# EAGLE library part AT91SAM9260 (library ARM926SBC)
ARM926EJ-S Microprocessor, 200MHz
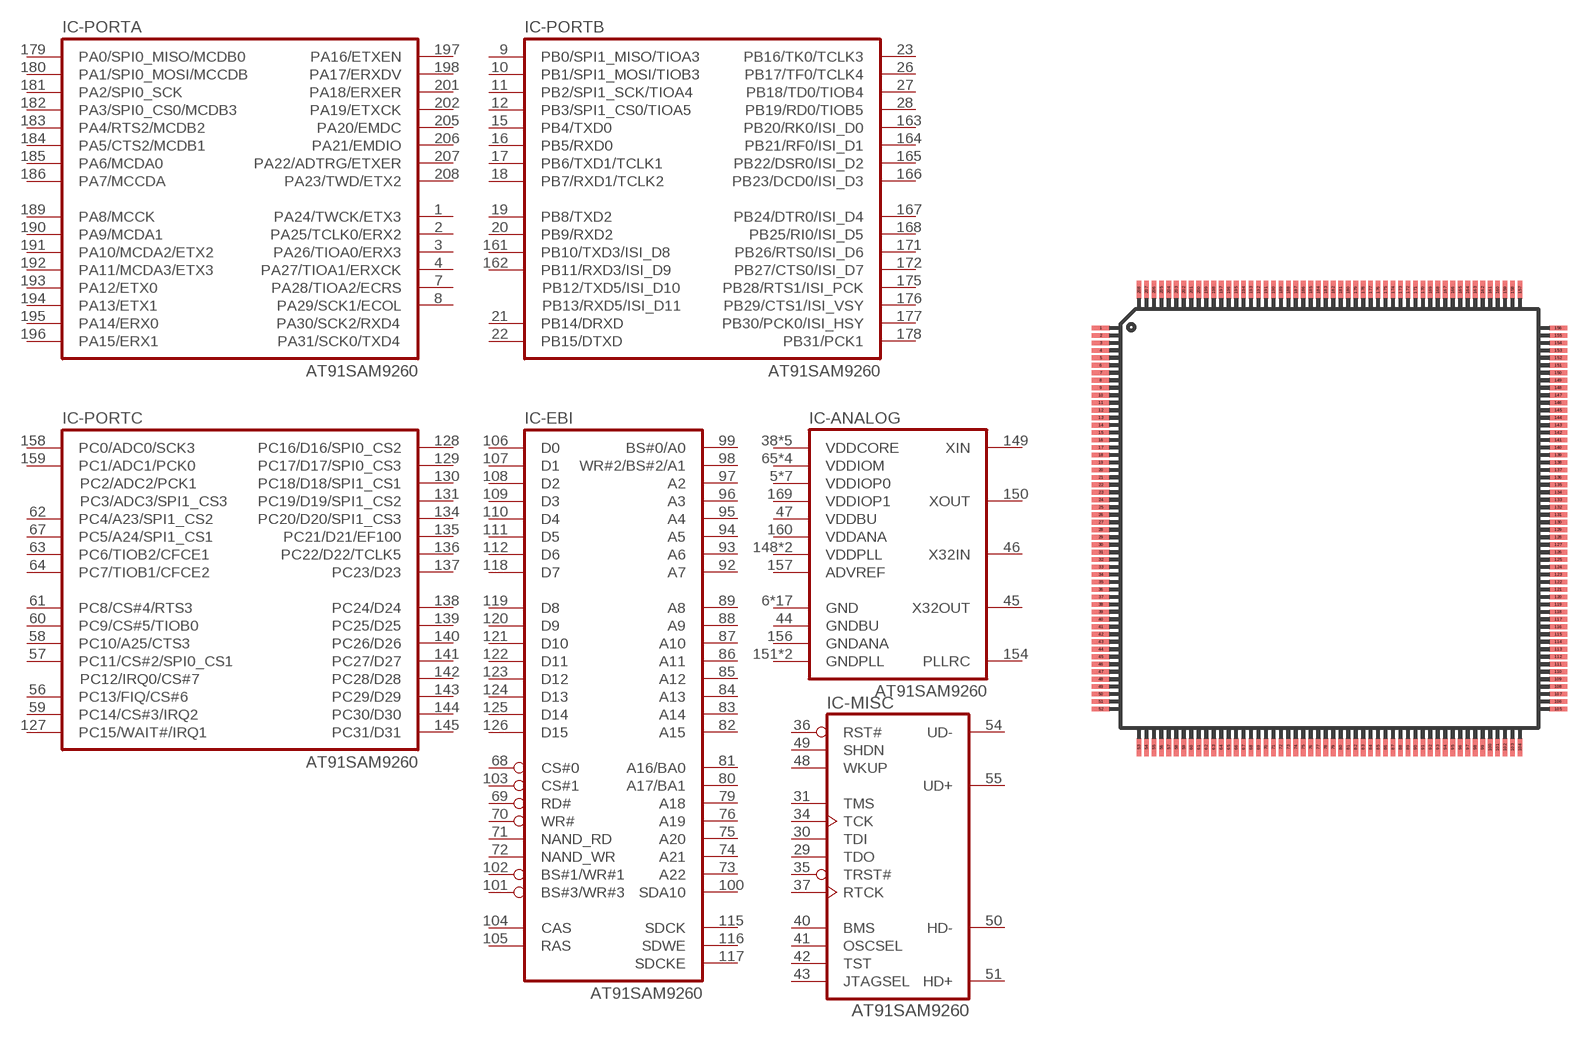
[diagram p0: symbol with the pads of PQFP208; footprint PQFP208]

Designator prefix IC; gates -ANALOG=AT91SAM9260-ANALOG -EBI=AT91SAM9260-EBI -PORTA=AT91SAM9260-QU-PORTA -PORTB=AT91SAM9260-QU-PORTB -PORTC=AT91SAM9260-QU-PORTC -MISC=AT91SAM9260-QU-MISC

## AT91SAM9260A-QU, AT91SAM9260B-QU  [PQFP208]
1  -PORTA:PA24/TWCK/ETX3
2  -PORTA:PA25/TCLK0/ERX2
3  -PORTA:PA26/TIOA0/ERX3
4  -PORTA:PA27/TIOA1/ERXCK
5  -ANALOG:VDDIOP0  pwr
6  -ANALOG:GND  pwr
7  -PORTA:PA28/TIOA2/ECRS
8  -PORTA:PA29/SCK1/ECOL
9  -PORTB:PB0/SPI1_MISO/TIOA3
10  -PORTB:PB1/SPI1_MOSI/TIOB3
11  -PORTB:PB2/SPI1_SCK/TIOA4
12  -PORTB:PB3/SPI1_CS0/TIOA5
13  -ANALOG:VDDIOP0  pwr
14  -ANALOG:GND  pwr
15  -PORTB:PB4/TXD0
16  -PORTB:PB5/RXD0
17  -PORTB:PB6/TXD1/TCLK1
18  -PORTB:PB7/RXD1/TCLK2
19  -PORTB:PB8/TXD2
20  -PORTB:PB9/RXD2
21  -PORTB:PB14/DRXD
22  -PORTB:PB15/DTXD
23  -PORTB:PB16/TK0/TCLK3
24  -ANALOG:VDDIOP0  pwr
25  -ANALOG:GND  pwr
26  -PORTB:PB17/TF0/TCLK4
27  -PORTB:PB18/TD0/TIOB4
28  -PORTB:PB19/RD0/TIOB5
29  -MISC:TDO  out
30  -MISC:TDI  in
31  -MISC:TMS  in
32  -ANALOG:VDDIOP0  pwr
33  -ANALOG:GND  pwr
34  -MISC:TCK  in
35  -MISC:TRST#  in
36  -MISC:RST#  in
37  -MISC:RTCK  out
38  -ANALOG:VDDCORE  pwr
39  -ANALOG:GND  pwr
40  -MISC:BMS  in
41  -MISC:OSCSEL  in
42  -MISC:TST  in
43  -MISC:JTAGSEL  in
44  -ANALOG:GNDBU  pwr
45  -ANALOG:X32OUT  out
46  -ANALOG:X32IN  in
47  -ANALOG:VDDBU  pwr
48  -MISC:WKUP  in
49  -MISC:SHDN  out
50  -MISC:HD-
51  -MISC:HD+
52  -ANALOG:VDDIOP0  pwr
53  -ANALOG:GND  pwr
54  -MISC:UD-
55  -MISC:UD+
56  -PORTC:PC13/FIQ/CS#6
57  -PORTC:PC11/CS#2/SPI0_CS1
58  -PORTC:PC10/A25/CTS3
59  -PORTC:PC14/CS#3/IRQ2
60  -PORTC:PC9/CS#5/TIOB0
61  -PORTC:PC8/CS#4/RTS3
62  -PORTC:PC4/A23/SPI1_CS2
63  -PORTC:PC6/TIOB2/CFCE1
64  -PORTC:PC7/TIOB1/CFCE2
65  -ANALOG:VDDIOM  pwr
66  -ANALOG:GND  pwr
67  -PORTC:PC5/A24/SPI1_CS1
68  -EBI:CS#0  out
69  -EBI:RD#  out
70  -EBI:WR#  out
71  -EBI:NAND_RD  out
72  -EBI:NAND_WR  out
73  -EBI:A22  out
74  -EBI:A21  out
75  -EBI:A20  out
76  -EBI:A19  out
77  -ANALOG:VDDCORE  pwr
78  -ANALOG:GND  pwr
79  -EBI:A18  out
80  -EBI:A17/BA1  out
81  -EBI:A16/BA0  out
82  -EBI:A15  out
83  -EBI:A14  out
84  -EBI:A13  out
85  -EBI:A12  out
86  -EBI:A11  out
87  -EBI:A10  out
88  -EBI:A9  out
89  -EBI:A8  out
90  -ANALOG:VDDIOM  pwr
91  -ANALOG:GND  pwr
92  -EBI:A7  out
93  -EBI:A6  out
94  -EBI:A5  out
95  -EBI:A4  out
96  -EBI:A3  out
97  -EBI:A2  out
98  -EBI:WR#2/BS#2/A1  out
99  -EBI:BS#0/A0  out
100  -EBI:SDA10  out
101  -EBI:BS#3/WR#3  out
102  -EBI:BS#1/WR#1  out
103  -EBI:CS#1  out
104  -EBI:CAS  out
105  -EBI:RAS  out
106  -EBI:D0
107  -EBI:D1
108  -EBI:D2
109  -EBI:D3
110  -EBI:D4
111  -EBI:D5
112  -EBI:D6
113  -ANALOG:GND  pwr
114  -ANALOG:VDDIOM  pwr
115  -EBI:SDCK  out
116  -EBI:SDWE  out
117  -EBI:SDCKE  out
118  -EBI:D7
119  -EBI:D8
120  -EBI:D9
121  -EBI:D10
122  -EBI:D11
123  -EBI:D12
124  -EBI:D13
125  -EBI:D14
126  -EBI:D15
127  -PORTC:PC15/WAIT#/IRQ1
128  -PORTC:PC16/D16/SPI0_CS2
129  -PORTC:PC17/D17/SPI0_CS3
130  -PORTC:PC18/D18/SPI1_CS1
131  -PORTC:PC19/D19/SPI1_CS2
132  -ANALOG:VDDIOM  pwr
133  -ANALOG:GND  pwr
134  -PORTC:PC20/D20/SPI1_CS3
135  -PORTC:PC21/D21/EF100
136  -PORTC:PC22/D22/TCLK5
137  -PORTC:PC23/D23
138  -PORTC:PC24/D24
139  -PORTC:PC25/D25
140  -PORTC:PC26/D26
141  -PORTC:PC27/D27
142  -PORTC:PC28/D28
143  -PORTC:PC29/D29
144  -PORTC:PC30/D30
145  -PORTC:PC31/D31
146  -ANALOG:GND  pwr
147  -ANALOG:VDDCORE  pwr
148  -ANALOG:VDDPLL  pwr
149  -ANALOG:XIN  in
150  -ANALOG:XOUT  out
151  -ANALOG:GNDPLL  pwr
153  -ANALOG:GNDPLL  pwr
154  -ANALOG:PLLRC  pas
155  -ANALOG:VDDPLL  pwr
156  -ANALOG:GNDANA  pwr
157  -ANALOG:ADVREF  pas
158  -PORTC:PC0/ADC0/SCK3
159  -PORTC:PC1/ADC1/PCK0
160  -ANALOG:VDDANA  pwr
161  -PORTB:PB10/TXD3/ISI_D8
162  -PORTB:PB11/RXD3/ISI_D9
163  -PORTB:PB20/RK0/ISI_D0
164  -PORTB:PB21/RF0/ISI_D1
165  -PORTB:PB22/DSR0/ISI_D2
166  -PORTB:PB23/DCD0/ISI_D3
167  -PORTB:PB24/DTR0/ISI_D4
168  -PORTB:PB25/RI0/ISI_D5
169  -ANALOG:VDDIOP1  pwr
170  -ANALOG:GND  pwr
171  -PORTB:PB26/RTS0/ISI_D6
172  -PORTB:PB27/CTS0/ISI_D7
173  -ANALOG:GND  pwr
174  -ANALOG:VDDCORE  pwr
175  -PORTB:PB28/RTS1/ISI_PCK
176  -PORTB:PB29/CTS1/ISI_VSY
177  -PORTB:PB30/PCK0/ISI_HSY
178  -PORTB:PB31/PCK1
179  -PORTA:PA0/SPI0_MISO/MCDB0
180  -PORTA:PA1/SPI0_MOSI/MCCDB
181  -PORTA:PA2/SPI0_SCK
182  -PORTA:PA3/SPI0_CS0/MCDB3
183  -PORTA:PA4/RTS2/MCDB2
184  -PORTA:PA5/CTS2/MCDB1
185  -PORTA:PA6/MCDA0
186  -PORTA:PA7/MCCDA
187  -ANALOG:VDDIOP0  pwr
188  -ANALOG:GND  pwr
189  -PORTA:PA8/MCCK
190  -PORTA:PA9/MCDA1
191  -PORTA:PA10/MCDA2/ETX2
192  -PORTA:PA11/MCDA3/ETX3
193  -PORTA:PA12/ETX0
194  -PORTA:PA13/ETX1
195  -PORTA:PA14/ERX0
196  -PORTA:PA15/ERX1
197  -PORTA:PA16/ETXEN
198  -PORTA:PA17/ERXDV
199  -ANALOG:VDDIOP0  pwr
200  -ANALOG:GND  pwr
201  -PORTA:PA18/ERXER
202  -PORTA:PA19/ETXCK
203  -ANALOG:VDDCORE  pwr
204  -ANALOG:GND  pwr
205  -PORTA:PA20/EMDC
206  -PORTA:PA21/EMDIO
207  -PORTA:PA22/ADTRG/ETXER
208  -PORTA:PA23/TWD/ETX2

## Footprint PQFP208 (pad centres in mm)
PLASTIC QUAD FLAT PACK
smd 1.2 x 0.32: 1 -15.3,12.75; 2 -15.3,12.25; 3 -15.3,11.75; 4 -15.3,11.25; 5 -15.3,10.75; 6 -15.3,10.25; 7 -15.3,9.75; 8 -15.3,9.25; 9 -15.3,8.75; 10 -15.3,8.25; 11 -15.3,7.75; 12 -15.3,7.25; 13 -15.3,6.75; 14 -15.3,6.25; 15 -15.3,5.75; 16 -15.3,5.25; 17 -15.3,4.75; 18 -15.3,4.25; 19 -15.3,3.75; 20 -15.3,3.25; 21 -15.3,2.75; 22 -15.3,2.25; 23 -15.3,1.75; 24 -15.3,1.25; 25 -15.3,0.75; 26 -15.3,0.25; 27 -15.3,-0.25; 28 -15.3,-0.75; 29 -15.3,-1.25; 30 -15.3,-1.75; 31 -15.3,-2.25; 32 -15.3,-2.75; 33 -15.3,-3.25; 34 -15.3,-3.75; 35 -15.3,-4.25; 36 -15.3,-4.75; 37 -15.3,-5.25; 38 -15.3,-5.75; 39 -15.3,-6.25; 40 -15.3,-6.75; 41 -15.3,-7.25; 42 -15.3,-7.75; 43 -15.3,-8.25; 44 -15.3,-8.75; 45 -15.3,-9.25; 46 -15.3,-9.75; 47 -15.3,-10.25; 48 -15.3,-10.75; 49 -15.3,-11.25; 50 -15.3,-11.75; 51 -15.3,-12.25; 52 -15.3,-12.75; 105 15.3,-12.75; 106 15.3,-12.25; 107 15.3,-11.75; 108 15.3,-11.25; 109 15.3,-10.75; 110 15.3,-10.25; 111 15.3,-9.75; 112 15.3,-9.25; 113 15.3,-8.75; 114 15.3,-8.25; 115 15.3,-7.75; 116 15.3,-7.25; 117 15.3,-6.75; 118 15.3,-6.25; 119 15.3,-5.75; 120 15.3,-5.25; 121 15.3,-4.75; 122 15.3,-4.25; 123 15.3,-3.75; 124 15.3,-3.25; 125 15.3,-2.75; 126 15.3,-2.25; 127 15.3,-1.75; 128 15.3,-1.25; 129 15.3,-0.75; 130 15.3,-0.25; 131 15.3,0.25; 132 15.3,0.75; 133 15.3,1.25; 134 15.3,1.75; 135 15.3,2.25; 136 15.3,2.75; 137 15.3,3.25; 138 15.3,3.75; 139 15.3,4.25; 140 15.3,4.75; 141 15.3,5.25; 142 15.3,5.75; 143 15.3,6.25; 144 15.3,6.75; 145 15.3,7.25; 146 15.3,7.75; 147 15.3,8.25; 148 15.3,8.75; 149 15.3,9.25; 150 15.3,9.75; 151 15.3,10.25; 152 15.3,10.75; 153 15.3,11.25; 154 15.3,11.75; 155 15.3,12.25; 156 15.3,12.75
smd 0.32 x 1.2: 53 -12.75,-15.3; 54 -12.25,-15.3; 55 -11.75,-15.3; 56 -11.25,-15.3; 57 -10.75,-15.3; 58 -10.25,-15.3; 59 -9.75,-15.3; 60 -9.25,-15.3; 61 -8.75,-15.3; 62 -8.25,-15.3; 63 -7.75,-15.3; 64 -7.25,-15.3; 65 -6.75,-15.3; 66 -6.25,-15.3; 67 -5.75,-15.3; 68 -5.25,-15.3; 69 -4.75,-15.3; 70 -4.25,-15.3; 71 -3.75,-15.3; 72 -3.25,-15.3; 73 -2.75,-15.3; 74 -2.25,-15.3; 75 -1.75,-15.3; 76 -1.25,-15.3; 77 -0.75,-15.3; 78 -0.25,-15.3; 79 0.25,-15.3; 80 0.75,-15.3; 81 1.25,-15.3; 82 1.75,-15.3; 83 2.25,-15.3; 84 2.75,-15.3; 85 3.25,-15.3; 86 3.75,-15.3; 87 4.25,-15.3; 88 4.75,-15.3; 89 5.25,-15.3; 90 5.75,-15.3; 91 6.25,-15.3; 92 6.75,-15.3; 93 7.25,-15.3; 94 7.75,-15.3; 95 8.25,-15.3; 96 8.75,-15.3; 97 9.25,-15.3; 98 9.75,-15.3; 99 10.25,-15.3; 100 10.75,-15.3; 101 11.25,-15.3; 102 11.75,-15.3; 103 12.25,-15.3; 104 12.75,-15.3; 157 12.75,15.3; 158 12.25,15.3; 159 11.75,15.3; 160 11.25,15.3; 161 10.75,15.3; 162 10.25,15.3; 163 9.75,15.3; 164 9.25,15.3; 165 8.75,15.3; 166 8.25,15.3; 167 7.75,15.3; 168 7.25,15.3; 169 6.75,15.3; 170 6.25,15.3; 171 5.75,15.3; 172 5.25,15.3; 173 4.75,15.3; 174 4.25,15.3; 175 3.75,15.3; 176 3.25,15.3; 177 2.75,15.3; 178 2.25,15.3; 179 1.75,15.3; 180 1.25,15.3; 181 0.75,15.3; 182 0.25,15.3; 183 -0.25,15.3; 184 -0.75,15.3; 185 -1.25,15.3; 186 -1.75,15.3; 187 -2.25,15.3; 188 -2.75,15.3; 189 -3.25,15.3; 190 -3.75,15.3; 191 -4.25,15.3; 192 -4.75,15.3; 193 -5.25,15.3; 194 -5.75,15.3; 195 -6.25,15.3; 196 -6.75,15.3; 197 -7.25,15.3; 198 -7.75,15.3; 199 -8.25,15.3; 200 -8.75,15.3; 201 -9.25,15.3; 202 -9.75,15.3; 203 -10.25,15.3; 204 -10.75,15.3; 205 -11.25,15.3; 206 -11.75,15.3; 207 -12.25,15.3; 208 -12.75,15.3